# EAGLE library part 74*4075 (library 74ttl-din)
Triple 3-input OR
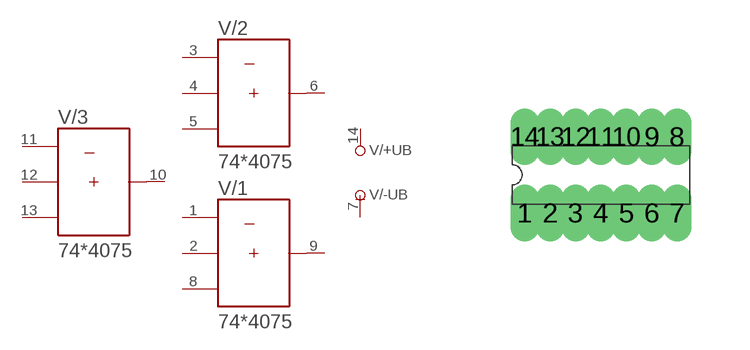
[diagram p148: symbol with the pads of DIL14; footprint DIL14]

Designator prefix V; gates /+UB=+UB /-UB=-UB /1=4075 /2=4075 /3=4075

## 744075N  [DIL14]
1  /1:A  in
2  /1:B  in
3  /2:A  in
4  /2:B  in
5  /2:C  in
6  /2:Y  out
7  /-UB:-UB  pwr
8  /1:C  in
9  /1:Y  out
10  /3:Y  out
11  /3:A  in
12  /3:B  in
13  /3:C  in
14  /+UB:+UB  pwr

## Footprint DIL14 (pad centres in mm)
Dual In Line Package
drill 0.203 long: 1 -1.905,-0.953; 2 -1.27,-0.953; 3 -0.635,-0.953; 4 0,-0.953; 5 0.635,-0.953; 6 1.27,-0.953; 7 1.905,-0.953; 8 1.905,0.953; 9 1.27,0.953; 10 0.635,0.953; 11 0,0.953; 12 -0.635,0.953; 13 -1.27,0.953; 14 -1.905,0.953